# EAGLE library part MICROCHIP-MCP73123/223-LIFEPO4CHARGER (library ClintonLib)
LiFePo4 Charger with programmable current limit Datasheet <http://ww1.microchip.com/downloads/en/DeviceDoc/22191E.pdf>
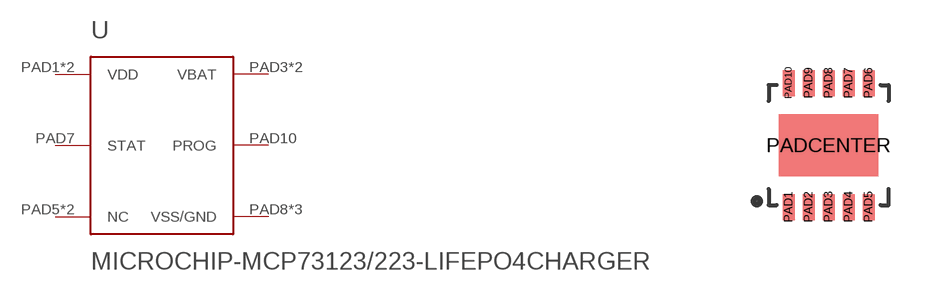
[diagram p5: symbol with the pads of MICROCHIP-MCP73123/223-3X3-DFN; footprint MICROCHIP-MCP73123/223-3X3-DFN]

Designator prefix -

## MICROCHIP-MCP73123/223-LIFEPO4CHARGER  [MICROCHIP-MCP73123/223-3X3-DFN]
PAD1  VDD
PAD2  VDD
PAD3  VBAT
PAD4  VBAT
PAD5  NC
PAD6  NC
PAD7  STAT
PAD8  VSS/GND
PAD9  VSS/GND
PAD10  PROG
PADCENTER  VSS/GND

## Footprint MICROCHIP-MCP73123/223-3X3-DFN (pad centres in mm)
Single-cell LiFePo4 Battery Gauge / Charge Controller
smd 0.3 x 0.65: PAD1 -1,-1.55; PAD2 -0.5,-1.55; PAD3 0,-1.55; PAD4 0.5,-1.55; PAD5 1,-1.55; PAD6 1,1.55; PAD7 0.5,1.55; PAD8 0,1.55; PAD9 -0.5,1.55; PAD10 -1,1.55
smd 2.48 x 1.55: PADCENTER 0,0